# Altium schematic symbol library Micropendous.SchLib: 1 symbol
Pins are listed as number, name and electrical type; pins without a type are passive.

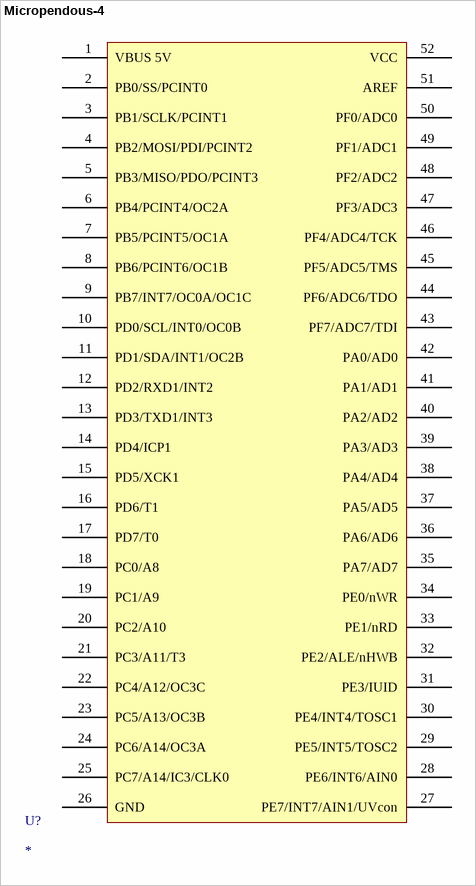
[diagram p0: symbol Micropendous-4]

## Micropendous-4
designator U?
footprint DIP-52 (DIP, Ceramic, 52-Pin, Row Spacing 15.24 mm, Pitch 2.54 mm)
pins: 1 VBUS 5V, 2 PB0/SS/PCINT0, 3 PB1/SCLK/PCINT1, 4 PB2/MOSI/PDI/PCINT2, 5 PB3/MISO/PDO/PCINT3, 6 PB4/PCINT4/OC2A, 7 PB5/PCINT5/OC1A, 8 PB6/PCINT6/OC1B, 9 PB7/INT7/OC0A/OC1C, 10 PD0/SCL/INT0/OC0B, 11 PD1/SDA/INT1/OC2B, 12 PD2/RXD1/INT2, 13 PD3/TXD1/INT3, 14 PD4/ICP1, 15 PD5/XCK1, 16 PD6/T1, 17 PD7/T0, 18 PC0/A8, 19 PC1/A9, 20 PC2/A10, 21 PC3/A11/T3, 22 PC4/A12/OC3C, 23 PC5/A13/OC3B, 24 PC6/A14/OC3A, 25 PC7/A14/IC3/CLK0, 26 GND, 27 PE7/INT7/AIN1/UVcon, 28 PE6/INT6/AIN0, 29 PE5/INT5/TOSC2, 30 PE4/INT4/TOSC1, 31 PE3/IUID, 32 PE2/ALE/nHWB, 33 PE1/nRD, 34 PE0/nWR, 35 PA7/AD7, 36 PA6/AD6, 37 PA5/AD5, 38 PA4/AD4, 39 PA3/AD3, 40 PA2/AD2, 41 PA1/AD1, 42 PA0/AD0, 43 PF7/ADC7/TDI, 44 PF6/ADC6/TDO, 45 PF5/ADC5/TMS, 46 PF4/ADC4/TCK, 47 PF3/ADC3, 48 PF2/ADC2, 49 PF1/ADC1, 50 PF0/ADC0, 51 AREF, 52 VCC